# Altium schematic symbol library SCA61T.Schlib: 1 symbol
Pins are listed as number, name and electrical type; pins without a type are passive.

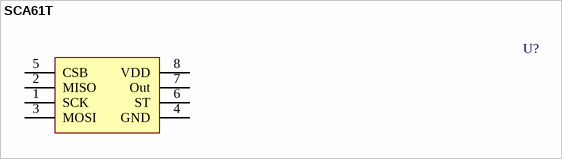
[diagram p0: symbol SCA61T]

## SCA61T
designator U?
IC, Inclinometer
pins: 1 SCK, 2 MISO, 3 MOSI, 4 GND, 5 CSB, 6 ST, 7 Out, 8 VDD
1 alternate drawing of the same symbol